# EAGLE library part MC74HC4053ADTR2G (library Deegou_IC)
Analog Multiplexer/Demultiplexer (Mux/Demux) Source: Datasheet <http://www.onsemi.com/pub/Collateral/MC74HC4051A-D.PDF>
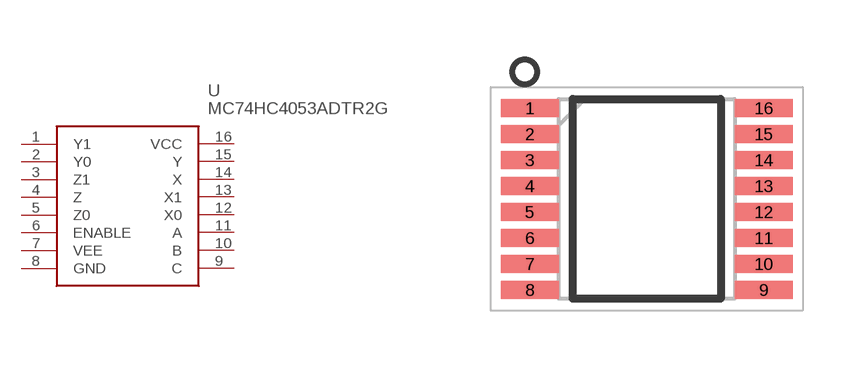
[diagram p46: symbol with the pads of SOP65P640X120-16N; footprint SOP65P640X120-16N]

Designator prefix U

## MC74HC4053ADTR2G (DESCRIPTION: Analog Multiplexer/Demultiplexer (Mux/Demux); HEIGHT: 1.2mm; MANUFACTURER_NAME: ON Semiconductor; MANUFACTURER_PART_NUMBER: MC74HC4053ADTR2G; MOUSER_PART_NUMBER: 863-MC74HC4053ADTR2G; MOUSER_PRICE-STOCK: https://www.mouser.com/Search/Refine.aspx?Keyword=863-MC74HC4053ADTR2G)  [SOP65P640X120-16N]
1  Y1
2  Y0
3  Z1
4  Z
5  Z0
6  ENABLE
7  VEE
8  GND
9  C
10  B
11  A
12  X0
13  X1
14  X
15  Y
16  VCC

## Footprint SOP65P640X120-16N (pad centres in mm)
TSSOP-16 CASE 948F ISSUE B
smd 1.45 x 0.45: 1 -2.925,2.275; 2 -2.925,1.625; 3 -2.925,0.975; 4 -2.925,0.325; 5 -2.925,-0.325; 6 -2.925,-0.975; 7 -2.925,-1.625; 8 -2.925,-2.275; 9 2.925,-2.275; 10 2.925,-1.625; 11 2.925,-0.975; 12 2.925,-0.325; 13 2.925,0.325; 14 2.925,0.975; 15 2.925,1.625; 16 2.925,2.275